# Altium schematic symbol library 53048-0810.SchLib: 1 symbol
Pins are listed as number, name and electrical type; pins without a type are passive.

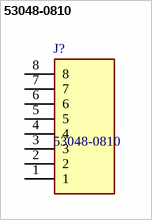
[diagram p0: symbol 53048-0810]

## 53048-0810
designator J?
8CKT R/A WAFER ASSY ROHS COMPLIANT: YES; Manufacturer_Name: Molex; Geometry.Height: 3.7mm; TME Electronic Components Part Number: *; TME Electronic Components Price/Stock: *; Manufacturer_Part_Number: 53048-0810; Datasheet Link: https://www.molex.com/pdm_docs/sd/530480810_sd.pdf
footprint 530480810
pins: 1, 2, 3, 4, 5, 6, 7, 8